# EAGLE library part WE-RJ45-LAN,SURGE-PROTECTION,7499010441 (library Wurth_Elektronik_Passive_rev16b)
WE-RJ45 LAN THT Surge Protection Characteristics: With two integrated gas discharge tubes High surge withstand voltage Small capacitance of surge device Application: Telecom devices Bridges, hubs, router, power line adapter LAN networks in rough environments <http://katalog.we-online.de/media/images/eisos/UtLAN_RJ45_pf2.jpg> Details see: http://katalog.we-online.de/en/pbs/WE-LAN_RJ45/7499010441? Updated by Dan Xu 2014-07-08 2014 (C) Würth Elektronik
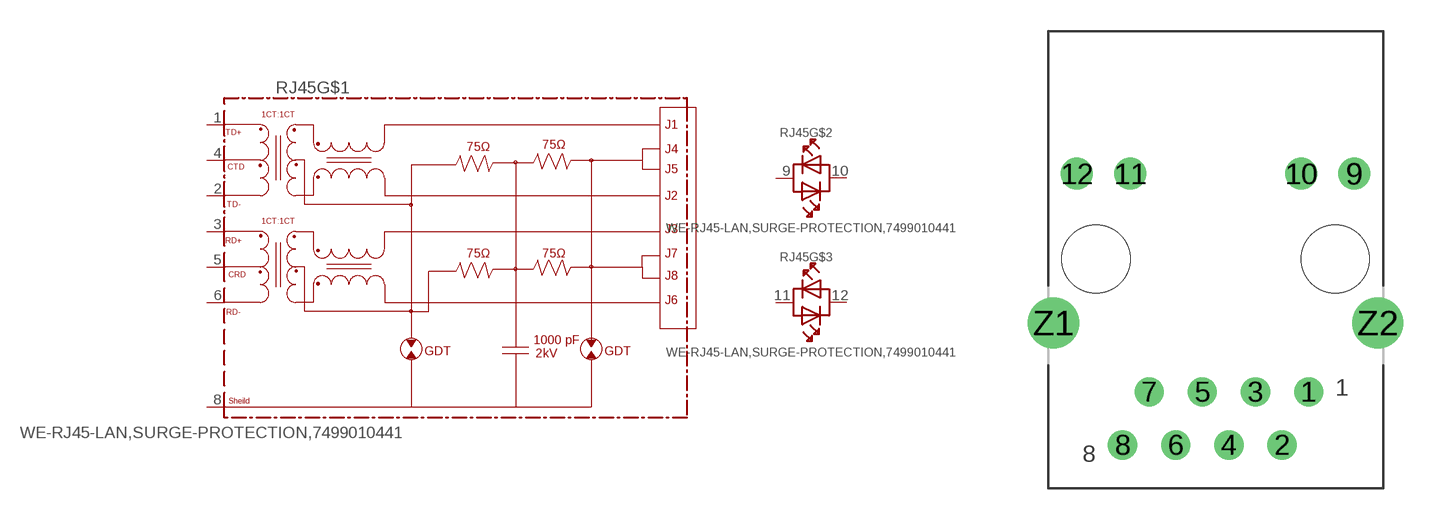
[diagram p130: symbol with the pads of 7499010441; footprint 7499010441]

Designator prefix RJ45; gates G$1=7499010441 G$2=LED-DUAL-2 G$3=LED-DUAL-2

## WE-RJ45-LAN,SURGE-PROTECTION,7499010441  [7499010441]
1  G$1:TD+
2  G$1:TD-
3  G$1:RD+
4  G$1:CTD
5  G$1:CRD
6  G$1:RD-
8  G$1:SHIELD
9  G$2:AK1
10  G$2:AK2
11  G$3:AK1
12  G$3:AK2

## Footprint 7499010441 (pad centres in mm)
drill 0.89: 1 4.445,-6.35; 2 3.175,-8.89; 3 1.905,-6.35; 4 0.635,-8.89; 5 -0.635,-6.35; 6 -1.905,-8.89; 7 -3.175,-6.35; 8 -4.445,-8.89
drill 1.02: 9 6.625,4.08; 10 4.085,4.08; 11 -4.085,4.08; 12 -6.625,4.08
drill 1.63: Z1 -7.745,-3.05; Z2 7.745,-3.05
hole 3.25 at 5.715,0
hole 3.25 at -5.715,0